# EAGLE library part MCP2515 (library MCP2515)
Microchip Technology’s MCP2515 is a stand-alone Controller Area Network (CAN) controller that implements the CAN specification, version 2.0B. It is capable of transmitting and receiving both standard and extended data and remote frames. The MCP2515 has two acceptance masks and six acceptance filters that are used to filter out unwanted messages, thereby reducing the host MCUs overhead. The MCP2515 interfaces with microcontrollers (MCUs) via an industry standard Serial Peripheral Interface (SPI).
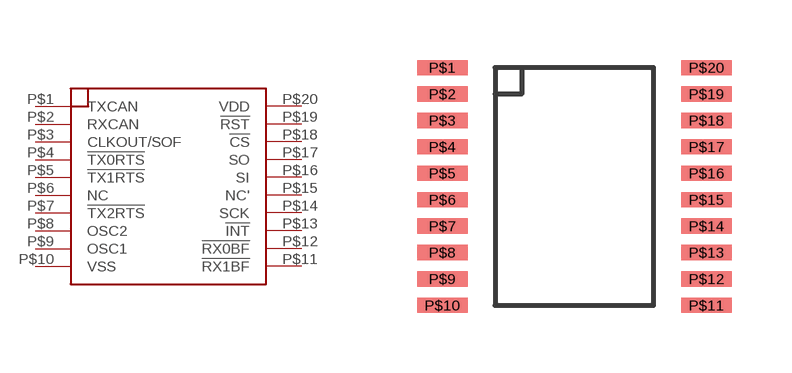
[diagram p0: symbol with the pads of TSSOP20; footprint TSSOP20]

Designator prefix -

## MCP2515  [TSSOP20]
P$1  TXCAN
P$2  RXCAN
P$3  CLKOUT/SOF
P$4  !TX0RTS
P$5  !TX1RTS
P$6  NC
P$7  !TX2RTS
P$8  OSC2
P$9  OSC1
P$10  VSS
P$11  !RX1BF
P$12  !RX0BF
P$13  !INT
P$14  SCK
P$15  NC'
P$16  SI
P$17  SO
P$18  !CS
P$19  !RST
P$20  VDD

## Footprint TSSOP20 (pad centres in mm)
TSSOP-20 formatted MCP2515
smd 1.27 x 0.381: P$1 -3.302,2.642; P$2 -3.302,1.981; P$3 -3.302,1.321; P$4 -3.302,0.66; P$5 -3.302,0; P$6 -3.302,-0.66; P$7 -3.302,-1.321; P$8 -3.302,-1.981; P$9 -3.302,-2.642; P$10 -3.302,-3.302; P$11 3.302,-3.302; P$12 3.302,-2.642; P$13 3.302,-1.981; P$14 3.302,-1.321; P$15 3.302,-0.66; P$16 3.302,0; P$17 3.302,0.66; P$18 3.302,1.321; P$19 3.302,1.981; P$20 3.302,2.642